# Altium footprint library Capacitors.PcbLib: 62 footprints (part 4 of 4)
Each footprint in its own frame and in the unit in brackets; x right, y up, seen from the top. Pads: shape width x height; smd on the part's side, far side on the other; paste and mask are expansions set on the pad; w line width, h text height; cw(c..) or ccw(c..) is an arc to the next point about the centre after c.
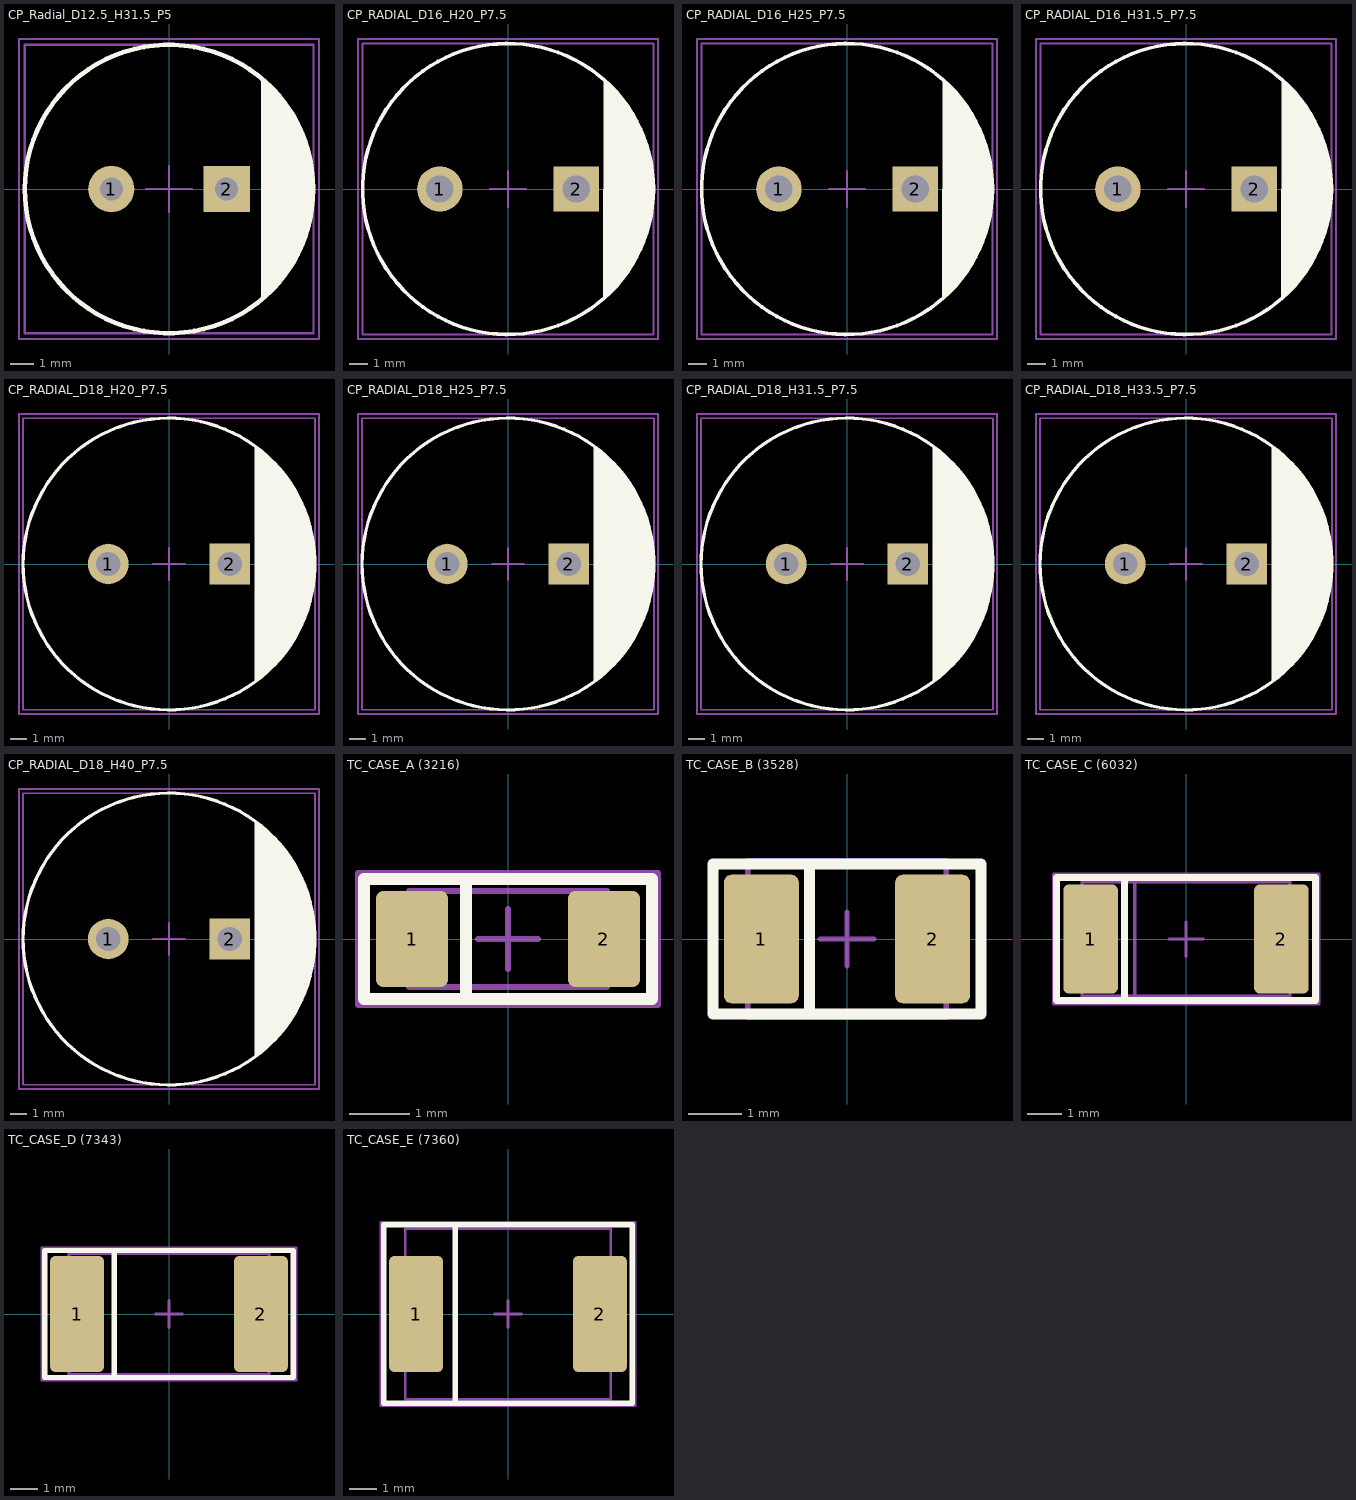
[diagram p3: the footprints below, top view; thin cyan lines are the x and y axes]

## CP_Radial_D12.5_H31.5_P5 [mm]
pads (2):
  round 2 hole 1: 1(-2.5,0)
  rect 2x2 hole 1: 2(2.5,0)
Top Overlay:
  region: 4,-4.8 4,4.8 4.001,4.801 4.264,4.582 4.74,4.089 5.158,3.546 5.515,2.961 5.805,2.341 6.026,1.692 6.175,1.024 6.25,0.343 6.25,-0.343 6.175,-1.024 6.026,-1.692 5.805,-2.341 5.515,-2.961 5.158,-3.546 4.74,-4.089 4.264,-4.582 4.001,-4.801
  lines w0.2: 4.001,-4.801 ccw(c0,0) 4.001,4.801 ; 6.25,0 ccw(c0,0) 6.25,0
Keep-Out Layer:
  region: 1.9,0.7
Mechanical 1:
  lines w0.1: -6.25,-6.25 6.26,-6.25 6.26,6.25 -6.25,6.25 -6.25,-6.25
Mechanical 15:
  lines w0.1: -1,0 1,0 ; 0,-1 0,1 ; -6.5,-6.5 6.5,-6.5 6.5,6.5 -6.5,6.5 -6.5,-6.5
3D body "CP_Radial_D12.50mm_H31.50mm_P5mm.STEP": height 31.6, standoff -2.8, extent -6.357,-6.357 6.357,6.353

## CP_RADIAL_D16_H20_P7.5 [mm]
pads (2):
  round 2.5 hole 1.5 unplated: 1(-3.75,0)
  rect 2.5x2.5 hole 1.5 unplated: 2(3.75,0)
Top Overlay:
  region: 5.268,6.021 5.589,5.74 6.167,5.113 6.676,4.429 7.109,3.694 7.461,2.917 7.729,2.108 7.909,1.274 8,0.426 8,-0.426 7.909,-1.274 7.729,-2.108 7.461,-2.917 7.109,-3.694 6.676,-4.429 6.167,-5.113 5.589,-5.74 5.268,-6.021 5.25,-6
  lines w0.2: 5.268,-6.021 ccw(c0,0) 5.268,6.021 ccw(c0,0) 5.268,-6.021
Mechanical 1:
  lines w0.1: 8,-8 8,8 ; 8,-8 8,-8 ; 8,-8 -8,-8 -8,8 8,8 ; 8,8 8,8
Mechanical 3:
  lines w0.1: -1,0 1,0 ; 0,-1 0,1 ; -8.25,-8.25 8.25,-8.25 8.25,8.25 -8.25,8.25 -8.25,-8.25
3D body "CP_Radial_D16.00mm_H20.00mm_P7.50mm.STEP": height 20.1, standoff -2.8, extent -8,-7.998 8,7.998

## CP_RADIAL_D16_H25_P7.5 [mm]
pads (2):
  round 2.5 hole 1.5 unplated: 1(-3.75,0)
  rect 2.5x2.5 hole 1.5 unplated: 2(3.75,0)
Top Overlay:
  region: 5.268,6.021 5.589,5.74 6.167,5.113 6.676,4.429 7.109,3.694 7.461,2.917 7.729,2.108 7.909,1.274 8,0.426 8,-0.426 7.909,-1.274 7.729,-2.108 7.461,-2.917 7.109,-3.694 6.676,-4.429 6.167,-5.113 5.589,-5.74 5.268,-6.021 5.25,-6
  lines w0.2: 5.268,-6.021 ccw(c0,0) 5.268,6.021 ccw(c0,0) 5.268,-6.021
Mechanical 1:
  lines w0.1: 8,-8 8,8 ; 8,-8 8,-8 ; 8,-8 -8,-8 -8,8 8,8 ; 8,8 8,8
Mechanical 3:
  lines w0.1: -1,0 1,0 ; 0,-1 0,1 ; -8.25,-8.25 8.25,-8.25 8.25,8.25 -8.25,8.25 -8.25,-8.25
3D body "CP_Radial_D16.00mm_H25.00mm_P7.50mm.STEP": height 25.1, standoff -2.8, extent -8,-7.998 8,7.998

## CP_RADIAL_D16_H31.5_P7.5 [mm]
pads (2):
  round 2.5 hole 1.5 unplated: 1(-3.75,0)
  rect 2.5x2.5 hole 1.5 unplated: 2(3.75,0)
Top Overlay:
  region: 5.268,6.021 5.589,5.74 6.167,5.113 6.676,4.429 7.109,3.694 7.461,2.917 7.729,2.108 7.909,1.274 8,0.426 8,-0.426 7.909,-1.274 7.729,-2.108 7.461,-2.917 7.109,-3.694 6.676,-4.429 6.167,-5.113 5.589,-5.74 5.268,-6.021 5.25,-6
  lines w0.2: 5.268,-6.021 ccw(c0,0) 5.268,6.021 ccw(c0,0) 5.268,-6.021
Mechanical 1:
  lines w0.1: 8,-8 8,8 ; 8,-8 8,-8 ; 8,-8 -8,-8 -8,8 8,8 ; 8,8 8,8
Mechanical 15:
  lines w0.1: -1,0 1,0 ; 0,-1 0,1 ; -8.25,-8.25 8.25,-8.25 8.25,8.25 -8.25,8.25 -8.25,-8.25
3D body "CP_Radial_D16.00mm_H31.50mm_P7.50mm.STEP": height 31.6, standoff -2.8, extent -8,-7.999 8,7.999

## CP_RADIAL_D18_H20_P7.5 [mm]
pads (2):
  round 2.5 hole 1.5 unplated: 1(-3.75,0)
  rect 2.5x2.5 hole 1.5 unplated: 2(3.75,0)
Top Overlay:
  region: 5.279,7.289 5.623,7.04 6.262,6.479 6.844,5.86 7.366,5.188 7.823,4.471 8.209,3.714 8.523,2.923 8.76,2.107 8.92,1.272 9,0.425 9,-0.425 8.92,-1.272 8.76,-2.107 8.523,-2.923 8.209,-3.714 7.823,-4.471 7.366,-5.188 6.844,-5.86 6.262,-6.479 5.623,-7.04 5.279,-7.289 5.279,-7.29
  lines w0.2: 5.279,-7.289 ccw(c0,0) 5.279,7.289 ccw(c0,0) 5.279,-7.29
Mechanical 1:
  lines w0.1: -9,-8.999 -9,8.999 9,8.999 9,-8.999 -9,-8.999
Mechanical 15:
  lines w0.1: -1,0 1,0 ; 0,-1 0,1 ; -9.25,-9.25 -9.25,9.25 9.25,9.25 9.25,-9.25 -9.25,-9.25
3D body "CP_Radial_D18.00mm_H20.00mm_P7.50mm.STEP": height 20.1, standoff -2.8, extent -9,-8.999 9,8.999

## CP_RADIAL_D18_H25_P7.5 [mm]
pads (2):
  round 2.5 hole 1.5 unplated: 1(-3.75,0)
  rect 2.5x2.5 hole 1.5 unplated: 2(3.75,0)
Top Overlay:
  region: 5.279,7.289 5.623,7.04 6.262,6.479 6.844,5.86 7.366,5.188 7.823,4.471 8.209,3.714 8.523,2.923 8.76,2.107 8.92,1.272 9,0.425 9,-0.425 8.92,-1.272 8.76,-2.107 8.523,-2.923 8.209,-3.714 7.823,-4.471 7.366,-5.188 6.844,-5.86 6.262,-6.479 5.623,-7.04 5.279,-7.289 5.279,-7.29
  lines w0.2: 5.279,-7.289 ccw(c0,0) 5.279,7.289 ccw(c0,0) 5.279,-7.29
Mechanical 1:
  lines w0.1: -9,-8.999 -9,8.999 9,8.999 9,-8.999 -9,-8.999
Mechanical 15:
  lines w0.1: -1,0 1,0 ; 0,-1 0,1 ; -9.25,-9.25 -9.25,9.25 9.25,9.25 9.25,-9.25 -9.25,-9.25
3D body "CP_Radial_D18.00mm_H25.00mm_P7.50mm.STEP": height 25.1, standoff -2.8, extent -9,-8.998 9,8.998

## CP_RADIAL_D18_H31.5_P7.5 [mm]
pads (2):
  round 2.5 hole 1.5 unplated: 1(-3.75,0)
  rect 2.5x2.5 hole 1.5 unplated: 2(3.75,0)
Top Overlay:
  region: 5.279,7.289 5.623,7.04 6.262,6.479 6.844,5.86 7.366,5.188 7.823,4.471 8.209,3.714 8.523,2.923 8.76,2.107 8.92,1.272 9,0.425 9,-0.425 8.92,-1.272 8.76,-2.107 8.523,-2.923 8.209,-3.714 7.823,-4.471 7.366,-5.188 6.844,-5.86 6.262,-6.479 5.623,-7.04 5.279,-7.289 5.279,-7.29
  lines w0.2: 5.279,-7.29 cw(c0,0) 5.279,7.289 cw(c0,0) 5.279,-7.289
Mechanical 1:
  lines w0.1: -9,-8.999 9,-8.999 9,8.999 -9,8.999 -9,-8.999
Mechanical 15:
  lines w0.1: -1,0 1,0 ; 0,-1 0,1 ; -9.25,-9.25 9.25,-9.25 9.25,9.25 -9.25,9.25 -9.25,-9.25
3D body "CP_Radial_D18.00mm_H31.50mm_P7.50mm.STEP": height 31.6, standoff -2.8, extent -9,-8.999 9,8.999

## CP_RADIAL_D18_H33.5_P7.5 [mm]
pads (2):
  round 2.5 hole 1.5 unplated: 1(-3.75,0)
  rect 2.5x2.5 hole 1.5 unplated: 2(3.75,0)
Top Overlay:
  region: 5.279,7.289 5.623,7.04 6.262,6.479 6.844,5.86 7.366,5.188 7.823,4.471 8.209,3.714 8.523,2.923 8.76,2.107 8.92,1.272 9,0.425 9,-0.425 8.92,-1.272 8.76,-2.107 8.523,-2.923 8.209,-3.714 7.823,-4.471 7.366,-5.188 6.844,-5.86 6.262,-6.479 5.623,-7.04 5.279,-7.289 5.279,-7.29
  lines w0.2: 5.279,-7.289 ccw(c0,0) 5.279,7.289 ccw(c0,0) 5.279,-7.29
Mechanical 1:
  lines w0.1: -9,-8.999 -9,8.999 9,8.999 9,-8.999 -9,-8.999
Mechanical 15:
  lines w0.1: -1,0 1,0 ; 0,-1 0,1 ; -9.25,-9.25 -9.25,9.25 9.25,9.25 9.25,-9.25 -9.25,-9.25
3D body "CP_Radial_D18.00mm_H33.50mm_P7.50mm.STEP": height 33.6, standoff -2.8, extent -9,-9 9,9

## CP_RADIAL_D18_H40_P7.5 [mm]
pads (2):
  round 2.5 hole 1.5 unplated: 1(-3.75,0)
  rect 2.5x2.5 hole 1.5 unplated: 2(3.75,0)
Top Overlay:
  region: 5.279,7.289 5.623,7.04 6.262,6.479 6.844,5.86 7.366,5.188 7.823,4.471 8.209,3.714 8.523,2.923 8.76,2.107 8.92,1.272 9,0.425 9,-0.425 8.92,-1.272 8.76,-2.107 8.523,-2.923 8.209,-3.714 7.823,-4.471 7.366,-5.188 6.844,-5.86 6.262,-6.479 5.623,-7.04 5.279,-7.289 5.279,-7.29
  lines w0.2: 5.279,-7.29 cw(c0,0) 5.279,7.289 cw(c0,0) 5.279,-7.289
Mechanical 1:
  lines w0.1: -9,-8.999 9,-8.999 9,8.999 -9,8.999 -9,-8.999
Mechanical 15:
  lines w0.1: -1,0 1,0 ; 0,-1 0,1 ; -9.25,-9.25 9.25,-9.25 9.25,9.25 -9.25,9.25 -9.25,-9.25
3D body "CP_Radial_D18.00mm_H40.00mm_P7.50mm.STEP": height 40.1, standoff -2.8, extent -9,-8.996 9,8.996

## TC_CASE_A (3216) [mm] "Tantalum Chip Capacitor, 2-Leads, Body 3.2x1.6mm, IPC Medium Density"
pads (2):
  rrect20% 1.2x1.6 smd: 1(-1.6,0) 2(1.6,0)
Top Overlay:
  lines w0.2: -0.7,-1 -0.7,1 ; -2.4,-1 2.4,-1 2.4,1 -2.4,1 -2.4,-1
Mechanical 1:
  lines w0.1: -0.7,-0.8 -0.7,0.8 ; -1.651,-0.8 1.651,-0.8 1.651,0.8 -1.651,0.8 -1.651,-0.8
Mechanical 15:
  lines w0.1: -0.5,0 0.5,0 ; 0,-0.5 0,0.5 ; -2.5,-1.1 -2.5,1.1 2.5,1.1 2.5,-1.1 -2.5,-1.1
3D body "CP_EIA-3216-18_Kemet-A.step": height 1.8, standoff 0, extent -1.6,-0.8 1.6,0.8

## TC_CASE_B (3528) [mm] "Tantalum Chip Capacitor, 2-Leads, Body 3.5x2.8mm, IPC Medium Density"
pads (2):
  rrect20% 1.4x2.4 smd: 1(-1.6,0) 2(1.6,0)
Top Overlay:
  lines w0.2: -0.7,-1.4 -0.7,1.3 ; -2.5,-1.4 2.5,-1.4 2.5,1.4 -2.5,1.4 -2.5,-1.4
Mechanical 1:
  lines w0.1: -0.7,-1.465 -0.7,1.465 ; -1.85,-1.465 1.85,-1.465 1.85,1.465 -1.85,1.465 -1.85,-1.465
Mechanical 15:
  lines w0.1: -0.5,0 0.5,0 ; 0,-0.5 0,0.5 ; -2.5,-1.4 -2.5,1.4 2.5,1.4 2.5,-1.4 -2.5,-1.4
3D body "CP_EIA-3528-21_Kemet-B.step": height 2.1, standoff 0, extent -1.75,-1.4 1.75,1.4

## TC_CASE_C (6032) [mm] "Tantalum Chip Capacitor, 2-Leads, Body 6.0x3.2mm, IPC Medium Density"
pads (2):
  rrect20% 1.6x3.2 smd: 1(-2.8,0) 2(2.8,0)
Top Overlay:
  lines w0.2: -1.8,-1.8 -1.8,1.8 ; -3.8,-1.8 3.8,-1.8 3.8,1.8 -3.8,1.8 -3.8,-1.8
Mechanical 1:
  lines w0.1: -1.5,-1.675 -1.5,1.675 ; -3.05,-1.675 -3.05,1.675 3.05,1.675 3.05,-1.675 -3.05,-1.675
Mechanical 15:
  lines w0.1: -0.5,0 0.5,0 ; 0,-0.5 0,0.5 ; -3.875,-1.9 -3.875,1.9 3.9,1.9 3.9,-1.9 -3.875,-1.9
3D body "CP_EIA-6032-28_Kemet-C.step": height 2.8, standoff 0, extent -3,-1.6 3,1.6

## TC_CASE_D (7343) [mm] "Tantalum Chip Capacitor, 2-Leads, Body 7.3x4.3mm, IPC Medium Density"
pads (2):
  rrect20% 2x4.3 smd: 1(-3.4,0) 2(3.4,0)
Top Overlay:
  lines w0.2: -2.025,-2.35 -2.025,2.35 ; -4.6,-2.35 4.6,-2.35 4.6,2.35 -4.6,2.35 -4.6,-2.35
Mechanical 1:
  lines w0.1: -2.025,-2.225 -2.025,2.225 ; -3.7,-2.225 -3.7,2.225 3.7,2.225 3.7,-2.225 -3.7,-2.225
Mechanical 15:
  lines w0.1: -0.5,0 0.5,0 ; 0,-0.5 0,0.5 ; -4.7,-2.45 -4.7,2.45 4.7,2.45 4.7,-2.45 -4.7,-2.45
3D body "CP_EIA-7343-31_Kemet-D.step": height 3.1, standoff 0, extent -3.65,-2.15 3.65,2.15

## TC_CASE_E (7360) [mm] "Tantalum Chip Capacitor, 2-Leads, Body 7.3x6.0mm, IPC Medium Density"
height 2.9
pads (2):
  rrect20% 2x4.3 smd: 1(-3.4,0) 2(3.4,0)
Top Overlay:
  lines w0.2: -1.95,-3.3 -1.95,3.3 ; -4.6,-3.3 -4.6,3.3 4.6,3.3 4.6,-3.3 -4.6,-3.3
Mechanical 1:
  lines w0.1: -1.95,-3.15 -1.95,3.15 ; -3.8,-3.15 -3.8,3.15 3.8,3.15 3.8,-3.15 -3.8,-3.15
Mechanical 15:
  lines w0.1: -0.5,0 0.5,0 ; 0,-0.5 0,0.5 ; -4.7,-3.4 4.7,-3.4 4.7,3.4 -4.7,3.4 -4.7,-3.4
3D body "CP_EIA-7360-38_Kemet-E.step": height 3.8, standoff 0, extent -3.8,-3.15 3.8,3.15